# EAGLE library part MOLEX-39-30-1240 (library Molex-ATX-PCIe)
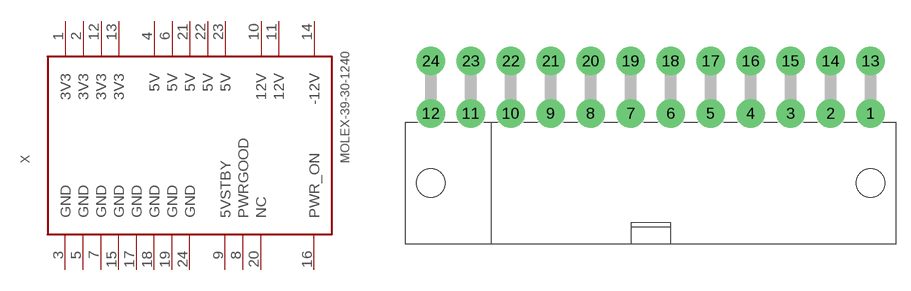
[diagram p0: symbol with the pads of MOLEX-39-30-1240; footprint MOLEX-39-30-1240]

Designator prefix X

## MOLEX-39-30-1240  [MOLEX-39-30-1240]
1  3V3  pas
2  3V3  pas
3  GND  pas
4  5V  pas
5  GND  pas
6  5V  pas
7  GND  pas
8  PWRGOOD  pas
9  5VSTBY  pas
10  12V  pas
11  12V  pas
12  3V3  pas
13  3V3  pas
14  -12V  pas
15  GND  pas
16  PWR_ON  pas
17  GND  pas
18  GND  pas
19  GND  pas
20  NC  pas
21  5V  pas
22  5V  pas
23  5V  pas
24  GND  pas

## Footprint MOLEX-39-30-1240 (pad centres in mm)
drill 1.8 pad 3 round: 1 23.1,7.3; 2 18.9,7.3; 3 14.7,7.3; 4 10.5,7.3; 5 6.3,7.3; 6 2.1,7.3; 7 -2.1,7.3; 8 -6.3,7.3; 9 -10.5,7.3; 10 -14.7,7.3; 11 -18.9,7.3; 12 -23.1,7.3; 13 23.1,12.8; 14 18.9,12.8; 15 14.7,12.8; 16 10.5,12.8; 17 6.3,12.8; 18 2.1,12.8; 19 -2.1,12.8; 20 -6.3,12.8; 21 -10.5,12.8; 22 -14.7,12.8; 23 -18.9,12.8; 24 -23.1,12.8
hole 3 at -23.1,0
hole 3 at 23.1,0